# Altium schematic symbol library MAX17261.SchLib: 1 symbol
Pins are listed as number, name and electrical type; pins without a type are passive.

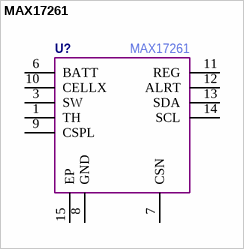
[diagram p0: symbol MAX17261]

## MAX17261
designator U?  Manufacturer Part Number: MAX17261
Battery Multi-Cell Fuel Gauge LI_ION
pins: 1 TH, 3 SW, 6 BATT, 7 CSN, 8 GND, 9 CSPL, 10 CELLX, 11 REG, 12 ALRT, 13 SDA, 14 SCL, 15 EP
1 alternate drawing of the same symbol